# Altium footprint library ADP1714AUJZ-3.PCBLIB: 1 footprints
Each footprint in its own frame and in the unit in brackets; x right, y up, seen from the top. Pads: shape width x height; smd on the part's side, far side on the other; paste and mask are expansions set on the pad; w line width, h text height; cw(c..) or ccw(c..) is an arc to the next point about the centre after c.
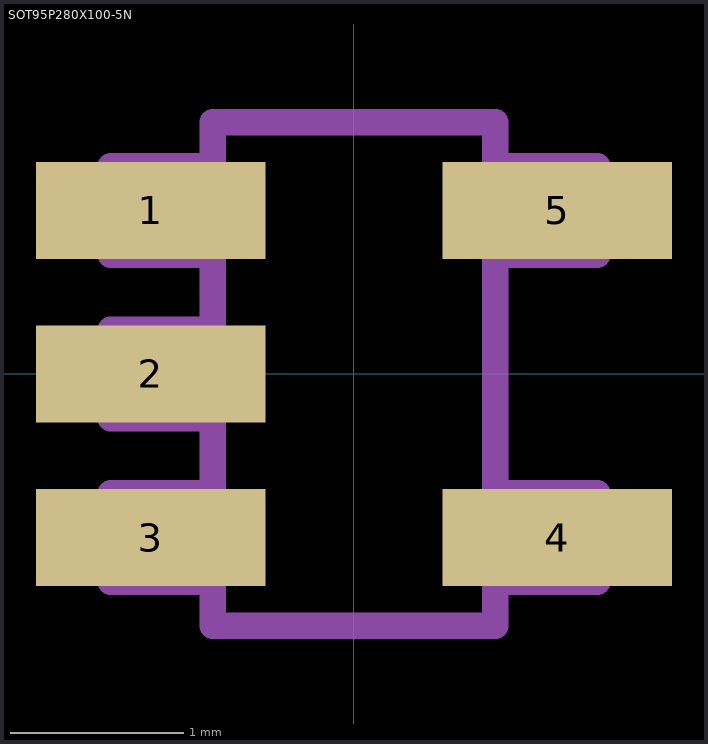
[diagram p0: the footprint, top view; thin cyan lines are the x and y axes]

## SOT95P280X100-5N [mil]
pads (5):
  rect 52x22 smd: 1(-46,37) 2(-46,0) 3(-46,-37) 4(46,-37) 5(46,37)
Mechanical 8:
  lines w6: -32,-47 -32,-57 32,-57 32,-47 ; -32,-47 -32,-27 ; -32,-47 -55,-47 -55,-27 -32,-27 ; -32,-27 -32,-10 ; -32,-10 -32,10 ; -32,-10 -55,-10 -55,10 -32,10 ; -32,10 -32,27 ; -32,27 -32,47 ; -32,27 -55,27 -55,47 -32,47 ; -32,47 -32,57 -12,57 12,57 32,57 32,47 ; 32,-47 32,-27 ; 32,-47 55,-47 55,-27 32,-27 ; 32,-27 32,27 ; 32,27 32,47 ; 32,27 55,27 55,47 32,47
Mechanical 22:
  lines w6: -10,-57 10,-57 ; -10,57 10,57 ; 32,-13 32,13